# EAGLE library part AR0147ATSC00XUEG5 (library AR0147ATSC00XUEG5)
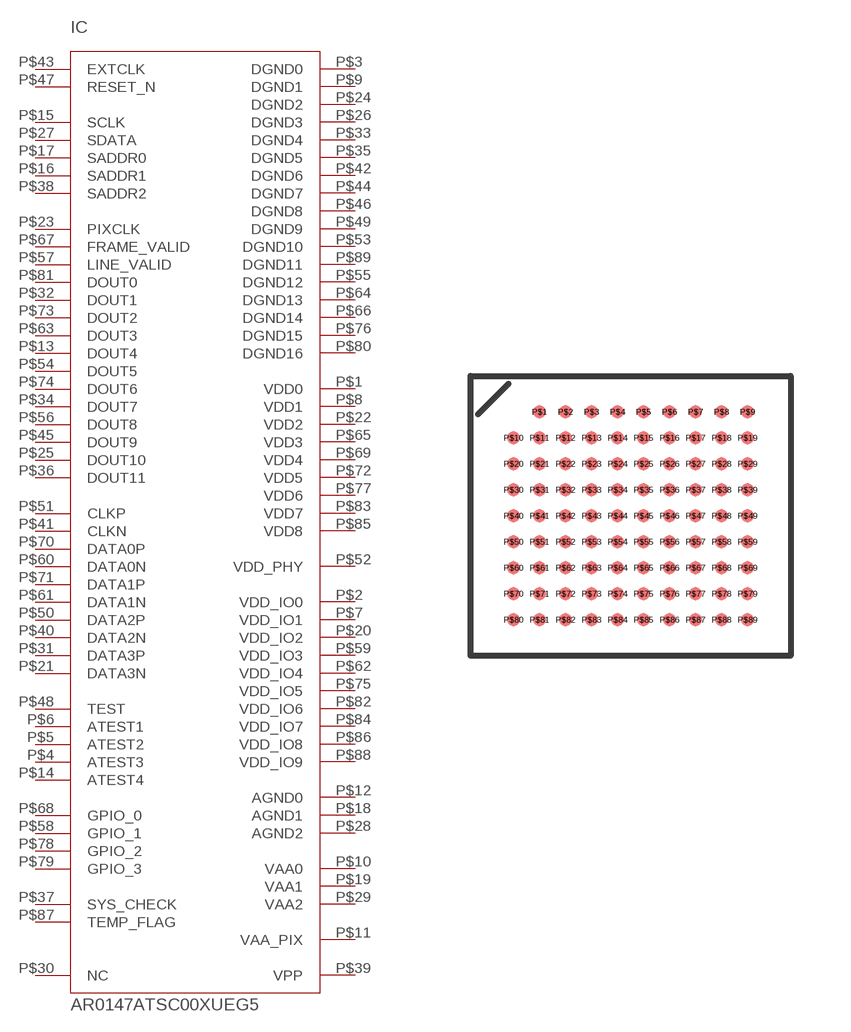
[diagram p0: symbol with the pads of AR0147ATSC00XUEG5; footprint AR0147ATSC00XUEG5]

Designator prefix IC

## AR0147ATSC00XUEG5  [AR0147ATSC00XUEG5]
P$1  VDD0
P$2  VDD_IO0
P$3  DGND0
P$4  ATEST3
P$5  ATEST2
P$6  ATEST1
P$7  VDD_IO1
P$8  VDD1
P$9  DGND1
P$10  VAA0
P$11  VAA_PIX
P$12  AGND0
P$13  DOUT4
P$14  ATEST4
P$15  SCLK
P$16  SADDR1
P$17  SADDR0
P$18  AGND1
P$19  VAA1
P$20  VDD_IO2
P$21  DATA3N
P$22  VDD2
P$23  PIXCLK
P$24  DGND2
P$25  DOUT10
P$26  DGND3
P$27  SDATA
P$28  AGND2
P$29  VAA2
P$30  NC
P$31  DATA3P
P$32  DOUT1
P$33  DGND4
P$34  DOUT7
P$35  DGND5
P$36  DOUT11
P$37  SYS_CHECK
P$38  SADDR2
P$39  VPP
P$40  DATA2N
P$41  CLKN
P$42  DGND6
P$43  EXTCLK
P$44  DGND7
P$45  DOUT9
P$46  DGND8
P$47  RESET_N
P$48  TEST
P$49  DGND9
P$50  DATA2P
P$51  CLKP
P$52  VDD_PHY
P$53  DGND10
P$54  DOUT5
P$55  DGND12
P$56  DOUT8
P$57  LINE_VALID
P$58  GPIO_1
P$59  VDD_IO3
P$60  DATA0N
P$61  DATA1N
P$62  VDD_IO4
P$63  DOUT3
P$64  DGND13
P$65  VDD3
P$66  DGND14
P$67  FRAME_VALID
P$68  GPIO_0
P$69  VDD4
P$70  DATA0P
P$71  DATA1P
P$72  VDD5
P$73  DOUT2
P$74  DOUT6
P$75  VDD_IO5
P$76  DGND15
P$77  VDD6
P$78  GPIO_2
P$79  GPIO_3
P$80  DGND16
P$81  DOUT0
P$82  VDD_IO6
P$83  VDD7
P$84  VDD_IO7
P$85  VDD8
P$86  VDD_IO8
P$87  TEMP_FLAG
P$88  VDD_IO9
P$89  DGND11

## Footprint AR0147ATSC00XUEG5 (pad centres in mm)
smd 0.32 x 0.32: P$1 -2.275,2.6; P$2 -1.625,2.6; P$3 -0.975,2.6; P$4 -0.325,2.6; P$5 0.325,2.6; P$6 0.975,2.6; P$7 1.625,2.6; P$8 2.275,2.6; P$9 2.925,2.6; P$10 -2.925,1.95; P$11 -2.275,1.95; P$12 -1.625,1.95; P$13 -0.975,1.95; P$14 -0.325,1.95; P$15 0.325,1.95; P$16 0.975,1.95; P$17 1.625,1.95; P$18 2.275,1.95; P$19 2.925,1.95; P$20 -2.925,1.3; P$21 -2.275,1.3; P$22 -1.625,1.3; P$23 -0.975,1.3; P$24 -0.325,1.3; P$25 0.325,1.3; P$26 0.975,1.3; P$27 1.625,1.3; P$28 2.275,1.3; P$29 2.925,1.3; P$30 -2.925,0.65; P$31 -2.275,0.65; P$32 -1.625,0.65; P$33 -0.975,0.65; P$34 -0.325,0.65; P$35 0.325,0.65; P$36 0.975,0.65; P$37 1.625,0.65; P$38 2.275,0.65; P$39 2.925,0.65; P$40 -2.925,0; P$41 -2.275,0; P$42 -1.625,0; P$43 -0.975,0; P$44 -0.325,0; P$45 0.325,0; P$46 0.975,0; P$47 1.625,0; P$48 2.275,0; P$49 2.925,0; P$50 -2.925,-0.65; P$51 -2.275,-0.65; P$52 -1.625,-0.65; P$53 -0.975,-0.65; P$54 -0.325,-0.65; P$55 0.325,-0.65; P$56 0.975,-0.65; P$57 1.625,-0.65; P$58 2.275,-0.65; P$59 2.925,-0.65; P$60 -2.925,-1.3; P$61 -2.275,-1.3; P$62 -1.625,-1.3; P$63 -0.975,-1.3; P$64 -0.325,-1.3; P$65 0.325,-1.3; P$66 0.975,-1.3; P$67 1.625,-1.3; P$68 2.275,-1.3; P$69 2.925,-1.3; P$70 -2.925,-1.95; P$71 -2.275,-1.95; P$72 -1.625,-1.95; P$73 -0.975,-1.95; P$74 -0.325,-1.95; P$75 0.325,-1.95; P$76 0.975,-1.95; P$77 1.625,-1.95; P$78 2.275,-1.95; P$79 2.925,-1.95; P$80 -2.925,-2.6; P$81 -2.275,-2.6; P$82 -1.625,-2.6; P$83 -0.975,-2.6; P$84 -0.325,-2.6; P$85 0.325,-2.6; P$86 0.975,-2.6; P$87 1.625,-2.6; P$88 2.275,-2.6; P$89 2.925,-2.6